# EAGLE library part SHIFTREG (library NYclock)
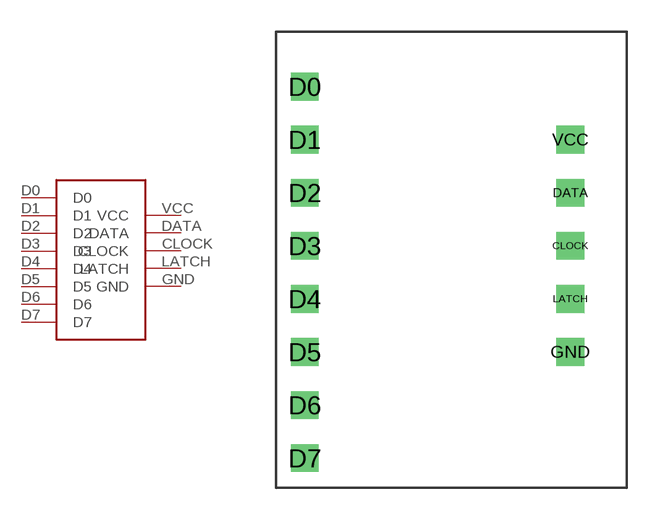
[diagram p0: symbol with the pads of SHIFTREG; footprint SHIFTREG]

Designator prefix 595

## SHIFTREG  [SHIFTREG]
CLOCK  CLOCK
D0  D0
D1  D1
D2  D2
D3  D3
D4  D4
D5  D5
D6  D6
D7  D7
DATA  DATA
GND  GND
LATCH  LATCH
VCC  VCC

## Footprint SHIFTREG (pad centres in mm)
drill 0.8 square: CLOCK 5,0; D0 -7.5,7.5; D1 -7.5,5; D2 -7.5,2.5; D3 -7.5,0; D4 -7.5,-2.5; D5 -7.5,-5; D6 -7.5,-7.5; D7 -7.5,-10; DATA 5,2.5; GND 5,-5; LATCH 5,-2.5; VCC 5,5